# Altium footprint library BMS.PcbLib: 15 footprints
Each footprint in its own frame and in the unit in brackets; x right, y up, seen from the top. Pads: shape width x height; smd on the part's side, far side on the other; paste and mask are expansions set on the pad; w line width, h text height; cw(c..) or ccw(c..) is an arc to the next point about the centre after c.
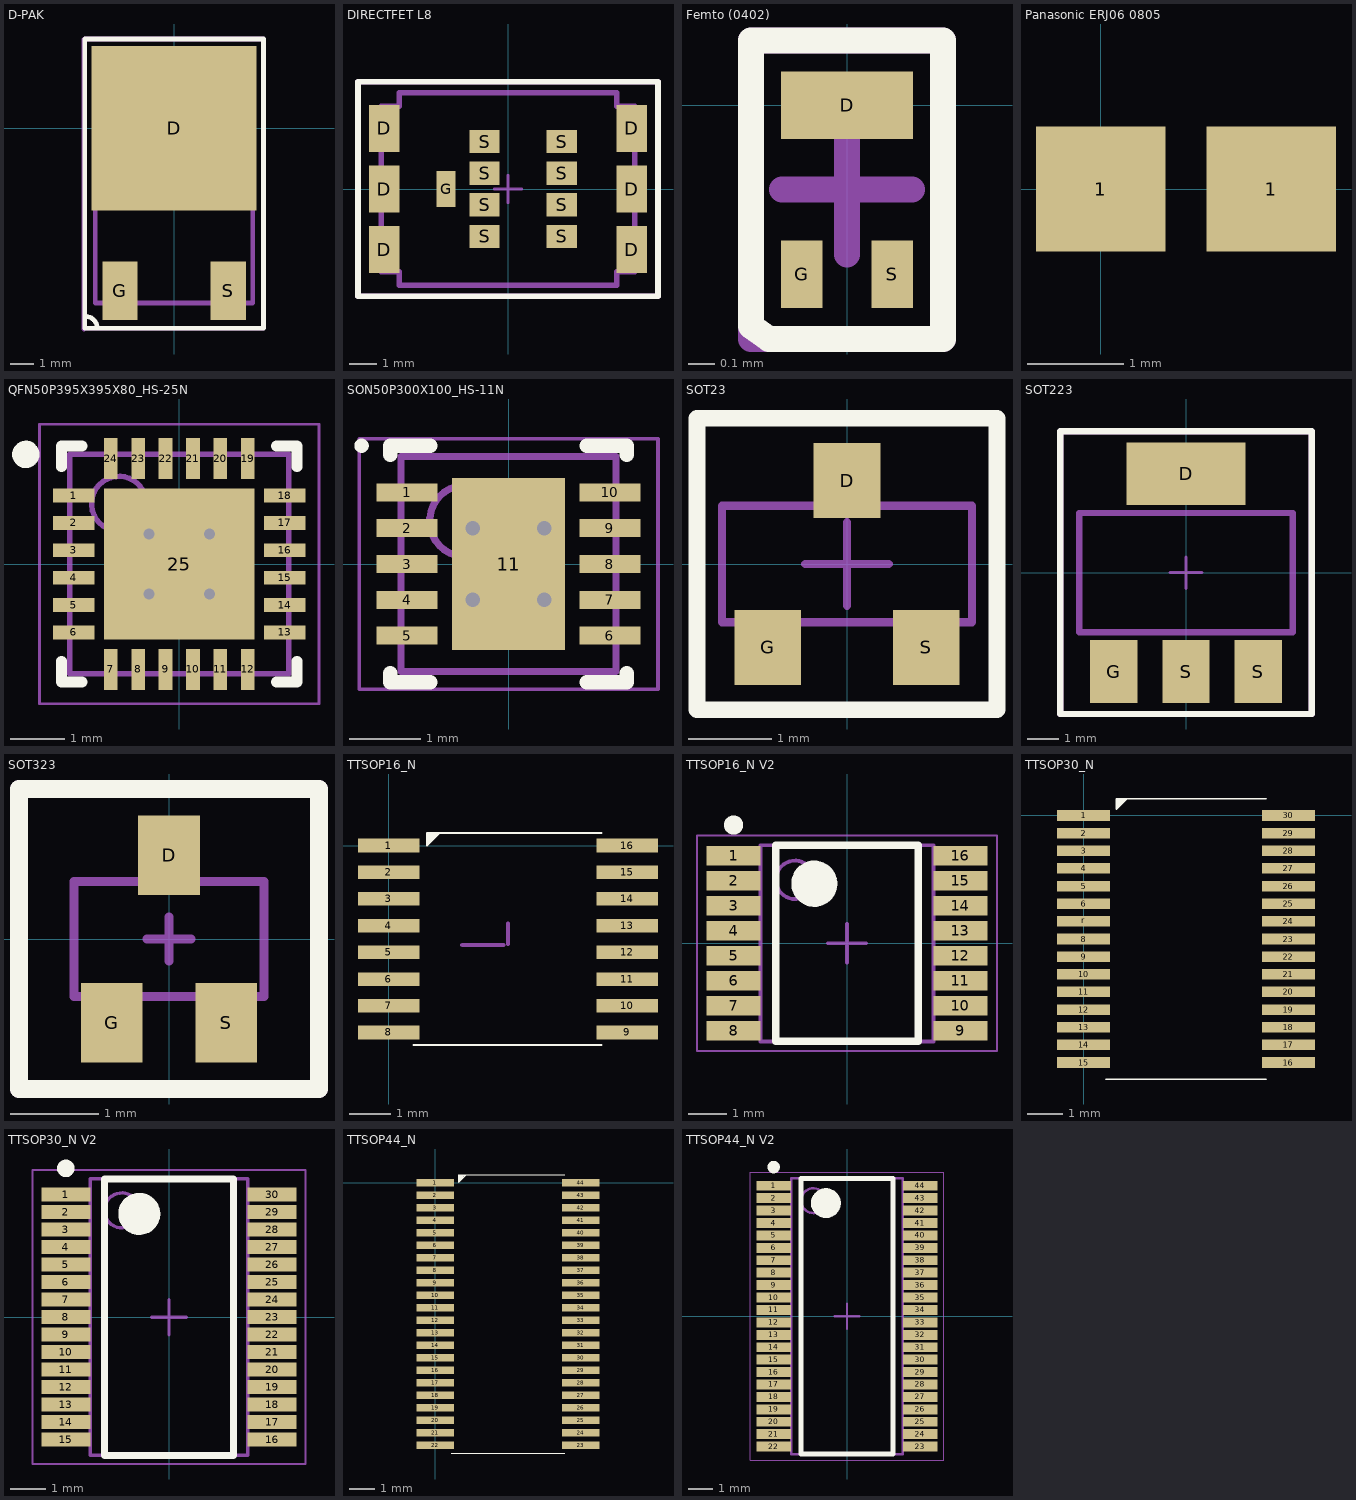
[diagram p0: the footprints below, top view; thin cyan lines are the x and y axes]

## D-PAK [mm] "TO-252-3"
pads (3):
  rect 7x7 smd: D(0,0)
  rect 1.5x2.5 smd: G(-2.3,-6.9) S(2.3,-6.9)
Top Overlay:
  lines w0.2: -3.8,-8 cw(c-3.75,-8.475) -3.275,-8.425 ; -3.8,-8.5 -3.8,3.8 3.8,3.8 3.8,-8.5 -3.8,-8.5
Mechanical 13:
  lines w0.2: -3.35,-7.425 3.35,-7.425 3.35,2.75 -3.35,2.75 -3.35,-7.425
Mechanical 15:
  lines w0.2: -3.825,-8.525 -3.825,3.775 ; -3.8,-8.5 3.8,-8.5 3.8,3.8 -3.8,3.8 ; -0.5,-2.325 0.5,-2.325 ; 0,-2.825 0,-1.825
3D body "D-PAK.stp": height 2.3, standoff 0, extent -3.25,-7.345 3.25,2.645

## DIRECTFET L8 [mm]
pads (15):
  rect 1.1x1.7 smd: D(-4.5,-2.2) D(-4.5,0) D(-4.5,2.2) D(4.5,-2.2) D(4.5,0) D(4.5,2.2)
  rect 0.7x1.3 smd: G(-2.25,0)
  rect 1.1x0.85 smd: S(-0.85,-1.725) S(-0.85,-0.575) S(-0.85,0.575) S(-0.85,1.725) S(1.95,-1.725) S(1.95,-0.575) S(1.95,0.575) S(1.95,1.725)
Top Overlay:
  lines w0.2: -5.45,-3.9 5.45,-3.9 5.45,3.9 -5.45,3.9 -5.45,-3.9
Mechanical 13:
  lines w0.2: -4.6,-3 -3.95,-3 -3.95,-3.5 3.95,-3.5 3.95,-3 4.6,-3 4.6,3 3.95,3 3.95,3.5 -3.95,3.5 -3.95,3 -4.6,3 -4.6,-3
Mechanical 15:
  lines w0.1: -0.5,0 0.5,0 ; 0,-0.5 0,0.5
  lines w0.2: -5.45,-3.9 -5.45,3.9 5.45,3.9 5.45,-3.9 -5.45,-3.9
3D body "User Library-DirectFET-L8_AUIRF7669L2.STEP": height 0.83, standoff 0, extent -4.575,-3.55 4.575,3.55

## Femto (0402) [mm] "FemoFet"
pads (3):
  rect 0.51x0.26 smd mask+0.05: D(0,0)
  rect 0.16x0.26 smd mask+0.05: G(-0.175,-0.65) S(0.175,-0.65)
Top Overlay:
  lines w0.1: -0.37,-0.85 -0.3,-0.9 0.37,-0.9 0.37,0.25 -0.37,0.25 -0.37,-0.85
Mechanical 13:
  lines w0.1: -0.37,-0.9 0.37,-0.9 0.37,0.25 -0.37,0.25 -0.37,-0.9
Mechanical 15:
  lines w0.1: -0.25,-0.325 0.25,-0.325 ; 0,-0.575 0,-0.075
3D body "CSD13381F4.stp": height 0.37, standoff 0.02, extent -0.315,-0.845 0.325,0.195

## Panasonic ERJ06 0805 [mm]
pads (2):
  rect 1.35x1.3 smd mask+0.05: 1(0,0) 1(1.775,0)
3D body "ERJ-P06J390V.stp": height 0.6, standoff 0, extent -0.125,-0.625 1.875,0.625

## QFN50P395X395X80_HS-25N [mm] "QFN, 24-Leads, Body 3.95x3.95mm, Pitch 0.50mm, Thermal Pad 2.75x2.75mm, IPC Medium Density"
height 0.8
pads (25):
  rect 0.75x0.25 smd: 1(-1.925,1.25) 2(-1.925,0.75) 3(-1.925,0.25) 4(-1.925,-0.25) 5(-1.925,-0.75) 6(-1.925,-1.25) 13(1.925,-1.25) 14(1.925,-0.75) 15(1.925,-0.25) 16(1.925,0.25) 17(1.925,0.75) 18(1.925,1.25)
  rect 0.25x0.75 smd: 7(-1.25,-1.925) 8(-0.75,-1.925) 9(-0.25,-1.925) 10(0.25,-1.925) 11(0.75,-1.925) 12(1.25,-1.925) 19(1.25,1.925) 20(0.75,1.925) 21(0.25,1.925) 22(-0.25,1.925) 23(-0.75,1.925) 24(-1.25,1.925)
  rect 2.75x2.75 smd: 25(0,0)
via -0.55,0.55 diameter 0.5 hole 0.2
via 0.55,0.55 diameter 0.5 hole 0.2
via -0.55,-0.55 diameter 0.5 hole 0.2
via 0.55,-0.55 diameter 0.5 hole 0.2
Top Overlay:
  circle w0.25: c-2.8,2 r0.125
  lines w0.2: -2.15,-1.775 -2.15,-2.15 -1.775,-2.15 ; -2.15,1.775 -2.15,2.15 -1.775,2.15 ; 1.775,-2.15 2.15,-2.15 2.15,-1.775 ; 1.775,2.15 2.15,2.15 2.15,1.775
Mechanical 13:
  circle w0.1: c-1.1,1.1 r0.5
  lines w0.1: -2,-2 -2,2 2,2 2,-2 -2,-2
Mechanical 15:
  lines w0.05: -2.55,-2.55 -2.55,2.55 2.55,2.55 2.55,-2.55 -2.55,-2.55
  lines w0.1: -0.5,0 0.5,0 ; 0,-0.5 0,0.5
3D body "QFN24(4X4).STEP": height 0.9, standoff 0, extent -2.01,-2.01 2.01,2.01

## SON50P300X100_HS-11N [mm] "SON, 10-Leads, Body 3.00x3.00mm, Pitch 0.50mm, Thermal Pad 2.40x1.58mm, IPC Medium Density"
height 1
pads (11):
  rect 0.85x0.25 smd: 1(-1.415,1) 2(-1.415,0.5) 3(-1.415,0) 4(-1.415,-0.5) 5(-1.415,-1) 6(1.415,-1) 7(1.415,-0.5) 8(1.415,0) 9(1.415,0.5) 10(1.415,1)
  rect 1.58x2.4 smd: 11(0,0)
via -0.5,0.5 diameter 0.5 hole 0.2
via 0.5,0.5 diameter 0.5 hole 0.2
via -0.5,-0.5 diameter 0.5 hole 0.2
via 0.5,-0.5 diameter 0.5 hole 0.2
Top Overlay:
  circle w0.1: c-2.05,1.65 r0.05
  lines w0.2: -1.65,-1.525 -1.65,-1.65 -1.09,-1.65 ; -1.65,1.525 -1.65,1.65 -1.09,1.65 ; 1.09,-1.65 1.65,-1.65 1.65,-1.525 ; 1.09,1.65 1.65,1.65 1.65,1.525
Mechanical 13:
  circle w0.1: c-0.6,0.6 r0.5
  lines w0.1: -1.5,-1.5 -1.5,1.5 1.5,1.5 1.5,-1.5 -1.5,-1.5
Mechanical 15:
  lines w0.05: -2.085,-1.75 -2.085,1.75 2.085,1.75 2.085,-1.75 -2.085,-1.75
  lines w0.1: -0.5,0 0.5,0 ; 0,-0.5 0,0.5
3D body "SON50P300X100_HS-11N.step": height 1, standoff 0, extent -1.5,-1.5 1.502,1.5

## SOT23 [mm]
pads (3):
  rect 0.8x0.9 smd: D(0,1) G(-0.95,-1) S(0.95,-1)
Top Overlay:
  lines w0.2: -1.8,-1.75 1.8,-1.75 1.8,1.75 -1.8,1.75 -1.8,-1.75
Mechanical 1:
  lines w0.1: -1.5,-0.7 1.5,-0.7 1.5,0.7 -1.5,0.7 -1.5,-0.7
Mechanical 15:
  lines w0.1: -0.5,0 0.5,0 ; 0,-0.5 0,0.5

## SOT223 [mm]
pads (4):
  rect 3.8x2 smd: D(0,3.15)
  rect 1.5x2 smd: G(-2.3,-3.15) S(0,-3.15) S(2.3,-3.15)
Top Overlay:
  lines w0.2: -4,-4.5 -4,4.5 4,4.5 4,-4.5 -4,-4.5
Mechanical 1:
  lines w0.2: -3.4,-1.9 -3.4,1.9 3.4,1.9 3.4,-1.9 -3.4,-1.9
Mechanical 15:
  lines w0.1: -0.5,0 0.5,0 ; 0,-0.5 0,0.5
  lines w0.2: -4,-4.5 4,-4.5 4,4.5 -4,4.5 -4,-4.5
3D body "SOT-223.stp": height 1.8, standoff 0, extent -3.25,-3.5 3.25,3.5

## SOT323 [mm]
pads (3):
  rect 0.7x0.9 smd: D(0,0.95) G(-0.65,-0.95) S(0.65,-0.95)
Top Overlay:
  lines w0.2: -1.7,-1.7 1.7,-1.7 1.7,1.7 -1.7,1.7 -1.7,-1.7
Mechanical 1:
  lines w0.1: -1.075,-0.65 1.075,-0.65 1.075,0.65 -1.075,0.65 -1.075,-0.65
Mechanical 15:
  lines w0.1: -0.25,0 0.25,0 ; 0,-0.25 0,0.25
  lines w0.2: -1.7,-1.7 -1.7,1.7 1.7,1.7 1.7,-1.7 -1.7,-1.7
3D body "SOT323.stp": height 0.95, standoff 0, extent -1.075,-1.054 1.075,1.054

## TTSOP16_N [mm]
pads (16):
  rect 1.5x0.33 smd mask+0: 1(0,0) 2(0,-0.65) 3(0,-1.3) 4(0,-1.95) 5(0,-2.6) 6(0,-3.25) 7(0,-3.9) 8(0,-4.55) 9(5.8,-4.55) 10(5.8,-3.9) 11(5.8,-3.25) 12(5.8,-2.6) 13(5.8,-1.95) 14(5.8,-1.3) 15(5.8,-0.65) 16(5.8,0)
Top Overlay:
  rectangle: 0.95,0.15 1.1,0.275
  rectangle: 0.95,0.075 1.025,0.15
  rectangle: 1.1,0.225 1.175,0.275
  lines w0.05: 0.6,-4.85 5.175,-4.85 ; 0.95,0.075 1.1,0.225 ; 1.225,0.3 0.925,0 0.925,0.3 5.175,0.3
Mechanical 15:
  lines w0.1: 1.787,-2.425 2.788,-2.425 ; 2.9,-2.4 2.9,-1.9
3D body "BQ76200.stp": height 1.2, standoff 0, extent -0.45,-4.775 6.25,0.225

## TTSOP16_N V2 [mm]
height 1.2
pads (16):
  rect 1.4x0.5 smd: 1(-2.95,2.275) 2(-2.95,1.625) 3(-2.95,0.975) 4(-2.95,0.325) 5(-2.95,-0.325) 6(-2.95,-0.975) 7(-2.95,-1.625) 8(-2.95,-2.275) 9(2.95,-2.275) 10(2.95,-1.625) 11(2.95,-0.975) 12(2.95,-0.325) 13(2.95,0.325) 14(2.95,0.975) 15(2.95,1.625) 16(2.95,2.275)
Top Overlay:
  circle w0.6: c-0.85,1.55 r0.3
  circle w0.25: c-2.95,3.075 r0.125
  lines w0.2: -1.85,-2.55 1.85,-2.55 1.85,2.55 -1.85,2.55 -1.85,-2.55
Mechanical 13:
  circle w0.1: c-1.35,1.65 r0.5
  lines w0.1: -2.25,-2.55 2.25,-2.55 2.25,2.55 -2.25,2.55 -2.25,-2.55
Mechanical 15:
  lines w0.05: -3.9,-2.8 3.9,-2.8 3.9,2.8 -3.9,2.8 -3.9,-2.8
  lines w0.1: -0.5,0 0.5,0 ; 0,-0.5 0,0.5
3D body "BQ76200.stp": height 1.19, standoff -0.01, extent -3.35,-2.5 3.35,2.5

## TTSOP30_N [mm]
pads (30):
  rect 1.5x0.3 smd mask+0: 1(0,0) 2(0,-0.5) 3(0,-1) 4(0,-1.5) 5(0,-2) 6(0,-2.5) 8(0,-3.5) 9(0,-4) 10(0,-4.5) 11(0,-5) 12(0,-5.5) 13(0,-6) 14(0,-6.5) 15(0,-7) 16(5.8,-7) 17(5.8,-6.5) 18(5.8,-6) 19(5.8,-5.5) 20(5.8,-5) 21(5.8,-4.5) 22(5.8,-4) 23(5.8,-3.5) 24(5.8,-3) 25(5.8,-2.5) 26(5.8,-2) 27(5.8,-1.5) 28(5.8,-1) 29(5.8,-0.5) 30(5.8,0) r(0,-3)
Top Overlay:
  rectangle: 0.95,0.325 1.1,0.45
  rectangle: 0.95,0.25 1.025,0.325
  rectangle: 1.1,0.4 1.175,0.45
  lines w0.05: 0.625,-7.475 5.175,-7.475 ; 0.95,0.25 1.1,0.4 ; 1.225,0.475 0.925,0.175 0.925,0.475 5.175,0.475
3D body "BQ78350-R1.stp": height 1.2, standoff 0, extent -0.421,-7.4 6.221,0.4

## TTSOP30_N V2 [mm]
height 1.2
pads (30):
  rect 1.4x0.4 smd: 1(-2.95,3.5) 2(-2.95,3) 3(-2.95,2.5) 4(-2.95,2) 5(-2.95,1.5) 6(-2.95,1) 7(-2.95,0.5) 8(-2.95,0) 9(-2.95,-0.5) 10(-2.95,-1) 11(-2.95,-1.5) 12(-2.95,-2) 13(-2.95,-2.5) 14(-2.95,-3) 15(-2.95,-3.5) 16(2.95,-3.5) 17(2.95,-3) 18(2.95,-2.5) 19(2.95,-2) 20(2.95,-1.5) 21(2.95,-1) 22(2.95,-0.5) 23(2.95,0) 24(2.95,0.5) 25(2.95,1) 26(2.95,1.5) 27(2.95,2) 28(2.95,2.5) 29(2.95,3) 30(2.95,3.5)
Top Overlay:
  circle w0.6: c-0.85,2.95 r0.3
  circle w0.25: c-2.95,4.25 r0.125
  lines w0.2: -1.85,-3.95 1.85,-3.95 1.85,3.95 -1.85,3.95 -1.85,-3.95
Mechanical 13:
  circle w0.1: c-1.35,3.05 r0.5
  lines w0.1: -2.25,-3.95 2.25,-3.95 2.25,3.95 -2.25,3.95 -2.25,-3.95
Mechanical 15:
  lines w0.05: -3.9,-4.2 3.9,-4.2 3.9,4.2 -3.9,4.2 -3.9,-4.2
  lines w0.1: -0.5,0 0.5,0 ; 0,-0.5 0,0.5
3D body "BQ78350-R1.stp": height 1.2, standoff 0, extent -3.271,-3.9 3.371,3.9

## TTSOP44_N [mm]
pads (44):
  rect 1.5x0.3 smd mask+0: 1(0,0) 2(0,-0.5) 3(0,-1) 4(0,-1.5) 5(0,-2) 6(0,-2.5) 7(0,-3) 8(0,-3.5) 9(0,-4) 10(0,-4.5) 11(0,-5) 12(0,-5.5) 13(0,-6) 14(0,-6.5) 15(0,-7) 16(0,-7.5) 17(0,-8) 18(0,-8.5) 19(0,-9) 20(0,-9.5) 21(0,-10) 22(0,-10.5) 23(5.8,-10.5) 24(5.8,-10) 25(5.8,-9.5) 26(5.8,-9) 27(5.8,-8.5) 28(5.8,-8) 29(5.8,-7.5) 30(5.8,-7) 31(5.8,-6.5) 32(5.8,-6) 33(5.8,-5.5) 34(5.8,-5) 35(5.8,-4.5) 36(5.8,-4) 37(5.8,-3.5) 38(5.8,-3) 39(5.8,-2.5) 40(5.8,-2) 41(5.8,-1.5) 42(5.8,-1) 43(5.8,-0.5) 44(5.8,0)
Top Overlay:
  rectangle: 1.1,0.25 1.175,0.3
  rectangle: 0.95,0.1 1.025,0.175
  rectangle: 0.95,0.175 1.1,0.3
  lines w0.05: 0.625,-10.825 5.175,-10.825 ; 0.95,0.1 1.1,0.25 ; 1.225,0.325 0.925,0.025 0.925,0.325 5.175,0.325
3D body "DBT44.step": height 1.22, standoff 0.02, extent -0.402,-10.952 6.202,0.452

## TTSOP44_N V2 [mm]
height 1.2
pads (44):
  rect 1.4x0.4 smd: 1(-2.95,5.25) 2(-2.95,4.75) 3(-2.95,4.25) 4(-2.95,3.75) 5(-2.95,3.25) 6(-2.95,2.75) 7(-2.95,2.25) 8(-2.95,1.75) 9(-2.95,1.25) 10(-2.95,0.75) 11(-2.95,0.25) 12(-2.95,-0.25) 13(-2.95,-0.75) 14(-2.95,-1.25) 15(-2.95,-1.75) 16(-2.95,-2.25) 17(-2.95,-2.75) 18(-2.95,-3.25) 19(-2.95,-3.75) 20(-2.95,-4.25) 21(-2.95,-4.75) 22(-2.95,-5.25) 23(2.95,-5.25) 24(2.95,-4.75) 25(2.95,-4.25) 26(2.95,-3.75) 27(2.95,-3.25) 28(2.95,-2.75) 29(2.95,-2.25) 30(2.95,-1.75) 31(2.95,-1.25) 32(2.95,-0.75) 33(2.95,-0.25) 34(2.95,0.25) 35(2.95,0.75) 36(2.95,1.25) 37(2.95,1.75) 38(2.95,2.25) 39(2.95,2.75) 40(2.95,3.25) 41(2.95,3.75) 42(2.95,4.25) 43(2.95,4.75) 44(2.95,5.25)
Top Overlay:
  circle w0.6: c-0.85,4.55 r0.3
  circle w0.25: c-2.95,6 r0.125
  lines w0.2: -1.85,-5.55 1.85,-5.55 1.85,5.55 -1.85,5.55 -1.85,-5.55
Mechanical 13:
  circle w0.1: c-1.35,4.65 r0.5
  lines w0.1: -2.25,-5.55 2.25,-5.55 2.25,5.55 -2.25,5.55 -2.25,-5.55
Mechanical 15:
  lines w0.05: -3.9,-5.8 3.9,-5.8 3.9,5.8 -3.9,5.8 -3.9,-5.8
  lines w0.1: -0.5,0 0.5,0 ; 0,-0.5 0,0.5
3D body "DBT44.step": height 1.22, standoff 0.02, extent -3.302,-5.702 3.302,5.702